# Altium footprint library TE_535584-1.PcbLib: 1 footprints
Each footprint in its own frame and in the unit in brackets; x right, y up, seen from the top. Pads: shape width x height; smd on the part's side, far side on the other; paste and mask are expansions set on the pad; w line width, h text height; cw(c..) or ccw(c..) is an arc to the next point about the centre after c.
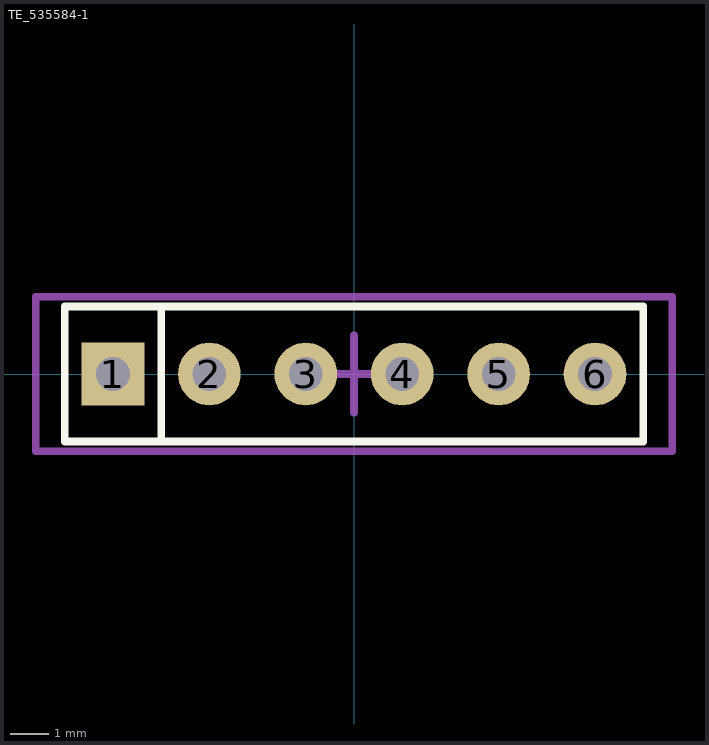
[diagram p0: the footprint, top view; thin cyan lines are the x and y axes]

## TE_535584-1 [mil]
pads (6):
  rect 65x65 hole 35: 1(-250,0)
  round 65 hole 35: 2(-150,0) 3(-50,0) 4(50,0) 5(150,0) 6(250,0)
Top Overlay:
  lines w7.87: -200,-70 -200,70 ; -300,-70 300,-70 300,70 -300,70 -300,-70
Mechanical 15:
  lines w7.87: -40,0 40,0 ; 0,-40 0,40 ; -330,-80 330,-80 330,80 -330,80 -330,-80
3D body "c-535584-1-r-3d.stp": height 265, standoff -125, extent -300,-70 300,70